# EAGLE library part LM2700 (library packages(ti))
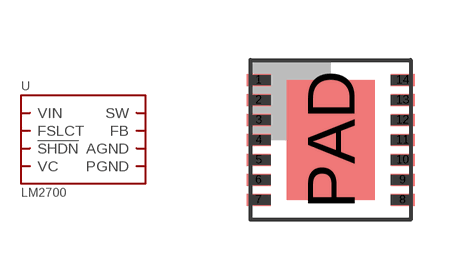
[diagram p23: symbol with the pads of LLP-EP; footprint LLP-EP]

Designator prefix U

## LM2700.LLP  [LLP-EP]
1  VC
2  FB
3  !SHDN
4  AGND
5  PGND
6  PGND
7  PGND
8  SW
9  SW
10  SW
12  VIN
13  FSLCT
PAD  PGND

## Footprint LLP-EP (pad centres in mm)
smd 0.6 x 0.3: 1 -1.8,1.5; 2 -1.8,1; 3 -1.8,0.5; 4 -1.8,0; 5 -1.8,-0.5; 6 -1.8,-1; 7 -1.8,-1.5; 8 1.8,-1.5; 9 1.8,-1; 10 1.8,-0.5; 11 1.8,0; 12 1.8,0.5; 13 1.8,1; 14 1.8,1.5
smd 2.2 x 3: PAD 0,0